# EAGLE library part PBK-5 (library C3-CUI)
CUI 5W AC-DC Converter SIP Module Datasheet <http://www.cui.com/product/resource/pbk-5.pdf>
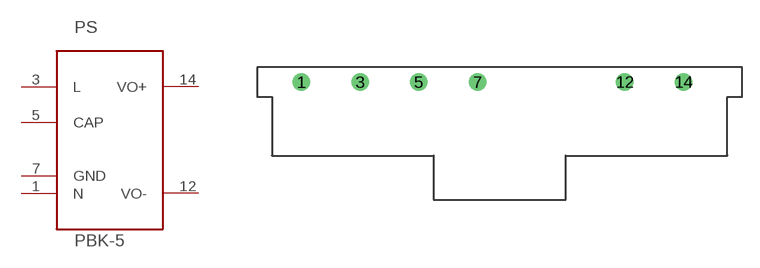
[diagram p1: symbol with the pads of PBK; footprint PBK]

Designator prefix PS

## PBK-5  [PBK]
1  N  pas
3  L  pas
5  CAP  pas
7  GND  pas
12  VO-  pas
14  VO+  pas

## Footprint PBK (pad centres in mm)
CUI PBK AC-DC Converter SIP Module Datasheet <http://www.cui.com/product/resource/pbk-5.pdf>
drill 1: 1 -15.24,0; 3 -10.16,0; 5 -5.08,0; 7 0,0; 12 12.7,0; 14 17.78,0